# Altium footprint library i.MX6_SoM.PcbLib: 1 footprints
Each footprint in its own frame and in the unit in brackets; x right, y up, seen from the top. Pads: shape width x height; smd on the part's side, far side on the other; paste and mask are expansions set on the pad; w line width, h text height; cw(c..) or ccw(c..) is an arc to the next point about the centre after c.
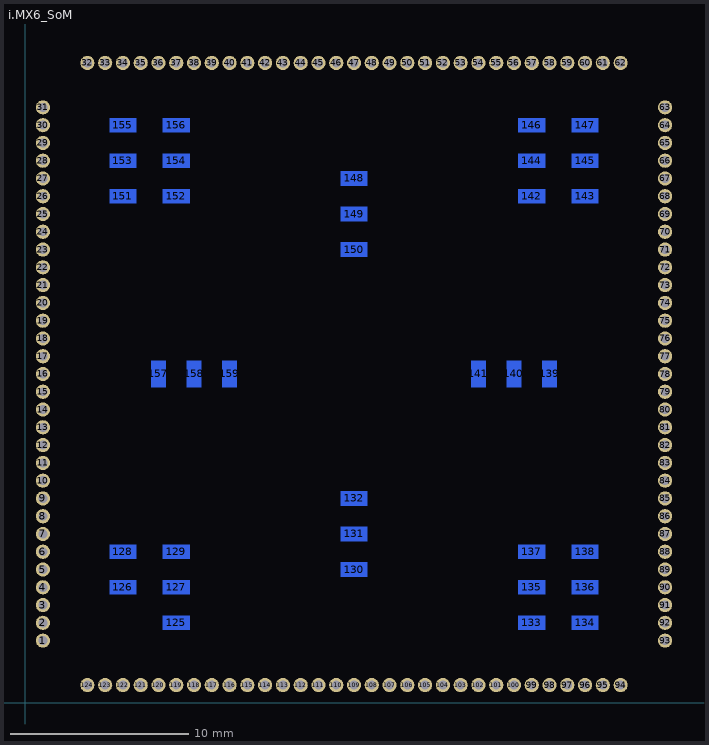
[diagram p0: the footprint, top view; thin cyan lines are the x and y axes]

## i.MX6_SoM [mm] "Castellated holes and bottom pads for i.MX6_SoM"
pads (159):
  round 0.8 hole 0.5: 1(1,3.5) 2(1,4.5) 3(1,5.5) 4(1,6.5) 5(1,7.5) 6(1,8.5) 7(1,9.5) 8(1,10.5) 9(1,11.5) 10(1,12.5) 11(1,13.5) 12(1,14.5) 13(1,15.5) 14(1,16.5) 15(1,17.5) 16(1,18.5) 17(1,19.5) 18(1,20.5) 19(1,21.5) 20(1,22.5) 21(1,23.5) 22(1,24.5) 23(1,25.5) 24(1,26.5) 25(1,27.5) 26(1,28.5) 27(1,29.5) 28(1,30.5) 29(1,31.5) 30(1,32.5) 31(1,33.5) 32(3.5,36) 33(4.5,36) 34(5.5,36) 35(6.5,36) 36(7.5,36) 37(8.5,36) 38(9.5,36) 39(10.5,36) 40(11.5,36) 41(12.5,36) 42(13.5,36) 43(14.5,36) 44(15.5,36) 45(16.5,36) 46(17.5,36) 47(18.5,36) 48(19.5,36) 49(20.5,36) 50(21.5,36) 51(22.5,36) 52(23.5,36) 53(24.5,36) 54(25.5,36) 55(26.5,36) 56(27.5,36) 57(28.5,36) 58(29.5,36) 59(30.5,36) 60(31.5,36) 61(32.5,36) 62(33.5,36) 63(36,33.5) 64(36,32.5) 65(36,31.5) 66(36,30.5) 67(36,29.5) 68(36,28.5) 69(36,27.5) 70(36,26.5) 71(36,25.5) 72(36,24.5) 73(36,23.5) 74(36,22.5) 75(36,21.5) 76(36,20.5) 77(36,19.5) 78(36,18.5) 79(36,17.5) 80(36,16.5) 81(36,15.5) 82(36,14.5) 83(36,13.5) 84(36,12.5) 85(36,11.5) 86(36,10.5) 87(36,9.5) 88(36,8.5) 89(36,7.5) 90(36,6.5) 91(36,5.5) 92(36,4.5) 93(36,3.5) 94(33.5,1) 95(32.5,1) 96(31.5,1) 97(30.5,1) 98(29.5,1) 99(28.5,1) 100(27.5,1) 101(26.5,1) 102(25.5,1) 103(24.5,1) 104(23.5,1) 105(22.5,1) 106(21.5,1) 107(20.5,1) 108(19.5,1) 109(18.5,1) 110(17.5,1) 111(16.5,1) 112(15.5,1) 113(14.5,1) 114(13.5,1) 115(12.5,1) 116(11.5,1) 117(10.5,1) 118(9.5,1) 119(8.5,1) 120(7.5,1) 121(6.5,1) 122(5.5,1) 123(4.5,1) 124(3.5,1)
  rect 1.5x0.8 smd far side: 125(8.5,4.5) 126(5.5,6.5) 127(8.5,6.5) 128(5.5,8.5) 129(8.5,8.5) 130(18.5,7.5) 131(18.5,9.5) 132(18.5,11.5) 133(28.5,4.5) 134(31.5,4.5) 135(28.5,6.5) 136(31.5,6.5) 137(28.5,8.5) 138(31.5,8.5) 142(28.5,28.5) 143(31.5,28.5) 144(28.5,30.5) 145(31.5,30.5) 146(28.5,32.5) 147(31.5,32.5) 148(18.5,29.5) 149(18.5,27.5) 150(18.5,25.5) 151(5.5,28.5) 152(8.5,28.5) 153(5.5,30.5) 154(8.5,30.5) 155(5.5,32.5) 156(8.5,32.5)
  rect 0.8x1.5 smd far side: 139(29.5,18.5) 140(27.5,18.5) 141(25.5,18.5) 157(7.5,18.5) 158(9.5,18.5) 159(11.5,18.5)